# Altium footprint library Color.Pcblib: 18 footprints (part 2 of 2)
Each footprint in its own frame and in the unit in brackets; x right, y up, seen from the top. Pads: shape width x height; smd on the part's side, far side on the other; paste and mask are expansions set on the pad; w line width, h text height; cw(c..) or ccw(c..) is an arc to the next point about the centre after c.
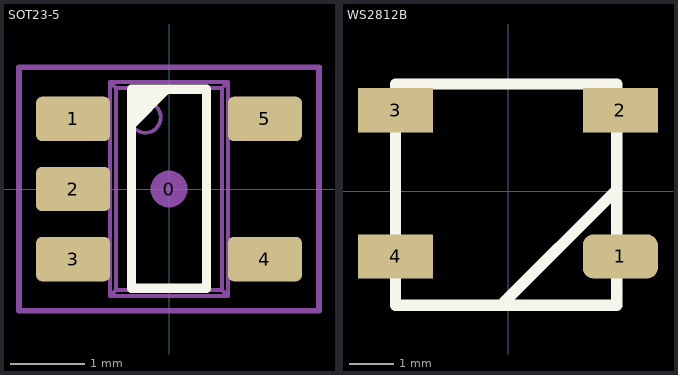
[diagram p1: the footprints below, top view; thin cyan lines are the x and y axes]

## SOT23-5 [mm]
height 1.6
pads (6):
  round 0.5 on Mech15: 0(0,0)
  rrect25% 1x0.6 smd: 1(-1.3,0.95) 2(-1.3,0) 3(-1.3,-0.95) 4(1.3,-0.95) 5(1.3,0.95)
Top Overlay:
  region: -0.508,1.353 0.053,1.353 -0.508,0.792
  lines w0.127: -0.508,-1.347 0.508,-1.347 0.508,1.353 -0.508,1.353 -0.508,-1.347
Mechanical 13:
  circle w0.05: c-0.32,0.97 r0.208
  lines w0.05: -1.191,-1.15 -1.191,-0.75 ; -1.191,-0.2 -1.191,0.2 ; -1.191,0.75 -1.191,1.15 ; -1.1,-1.15 -1.1,-0.75 ; -1.1,-0.2 -1.1,0.2 ; -1.1,0.75 -1.1,1.15 ; -1.094,-1.15 -1.094,-0.75 ; -1.094,-0.2 -1.094,0.2 ; -1.094,0.75 -1.094,1.15 ; -0.844,-1.15 -0.844,-0.75 ; -0.844,-0.2 -0.844,0.2 ; -0.844,0.75 -0.844,1.15 ; -0.8,-1.15 -1.4,-1.15 -1.4,-0.75 -0.8,-0.75 ; -0.8,-0.2 -1.4,-0.2 -1.4,0.2 -0.8,0.2 ; -0.8,0.75 -1.4,0.75 -1.4,1.15 -0.8,1.15 ; 0.8,-1.15 1.4,-1.15 1.4,-0.75 0.8,-0.75 ; 0.8,0.75 1.4,0.75 1.4,1.15 0.8,1.15 ; 0.844,-1.15 0.844,-0.75 ; 0.844,0.75 0.844,1.15 ; 1.094,-1.15 1.094,-0.75 ; 1.094,0.75 1.094,1.15 ; 1.1,-1.15 1.1,-0.75 ; 1.1,0.75 1.1,1.15 ; 1.191,-1.15 1.191,-0.75 ; 1.191,0.75 1.191,1.15 ; -0.8,-1.45 0.8,-1.45 ; -0.8,-1.45 -0.719,-1.369 ; -0.8,-1.45 -0.8,1.45 ; -0.8,1.45 0.8,1.45 ; -0.8,1.45 -0.719,1.369 ; -0.719,-1.369 -0.719,1.369 ; -0.719,-1.369 0.719,-1.369 ; -0.719,1.369 0.719,1.369 ; 0.719,-1.369 0.719,1.369 ; 0.719,-1.369 0.8,-1.45 ; 0.719,1.369 0.8,1.45 ; 0.8,-1.45 0.8,1.45
Mechanical 15:
  lines w0.076: -2.032,-1.651 2.032,-1.651 2.032,1.651 -2.032,1.651 -2.032,-1.651
3D body "SOT23-5.STEP": height 1.44, standoff -0.01, extent -1.4,-1.45 1.4,1.45

## WS2812B [mm]
height 3.25
pads (4):
  rrect50% 1.7x1 smd: 1(2.54,-1.473)
  rect 1.7x1 smd: 2(2.54,1.829) 3(-2.54,1.829) 4(-2.54,-1.473)
Top Overlay:
  lines w0.254: -0.098,-2.518 2.44,0.019 ; -2.54,-2.576 -2.54,2.424 2.46,2.424 2.46,-2.576 -2.54,-2.576
3D body "User Library-WS2812B.step": height 1.5, standoff -0.2, extent -2.704,-2.453 2.703,2.555